# EAGLE library part AY-3-8500 (library TABOR K1)
TV hra
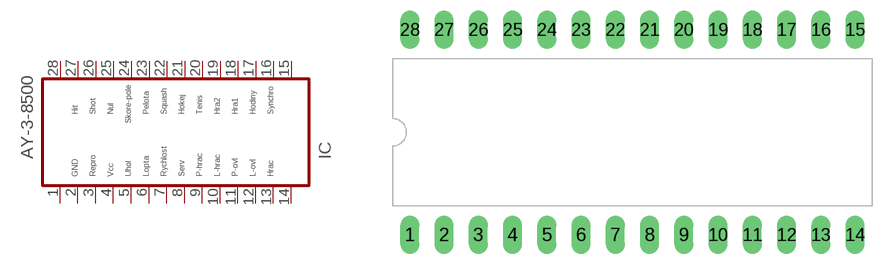
[diagram p55: symbol with the pads of DIL28; footprint DIL28]

Designator prefix IC

## AY-3-8500N  [DIL28]
1  1  nc
2  GND  pwr
3  AUDIO  out
4  VCC  pwr
5  UHOL  pas
6  LOPTA  out
7  RYCHL  pas
8  MAN-SERV  pas
9  P-HRAC  out
10  L-HRAC  out
11  P-OVL  pas
12  L-OVL  pas
13  ROZMER  pas
14  14  nc
15  15  nc
16  SYNCH  out
17  HODINY  in
18  HRA1  pas
19  HRA2  pas
20  TENIS  pas
21  HOKEJ  pas
22  SQUASH  pas
23  PELOTA  pas
24  SKORE  out
25  NUL  in
26  SHOT  in
27  HIT  in
28  28  nc

## Footprint DIL28 (pad centres in mm)
Púzdro DIL28 : diera s pokovenim = 0,6 mm, vrtanie = 0,8mm
drill 0.813 pad 1.422 long: 1 -16.51,-7.62; 2 -13.97,-7.62; 3 -11.43,-7.62; 4 -8.89,-7.62; 5 -6.35,-7.62; 6 -3.81,-7.62; 7 -1.27,-7.62; 8 1.27,-7.62; 9 3.81,-7.62; 10 6.35,-7.62; 11 8.89,-7.62; 12 11.43,-7.62; 13 13.97,-7.62; 14 16.51,-7.62; 15 16.51,7.62; 16 13.97,7.62; 17 11.43,7.62; 18 8.89,7.62; 19 6.35,7.62; 20 3.81,7.62; 21 1.27,7.62; 22 -1.27,7.62; 23 -3.81,7.62; 24 -6.35,7.62; 25 -8.89,7.62; 26 -11.43,7.62; 27 -13.97,7.62; 28 -16.51,7.62